# EAGLE library part 645008117322 (library Wire-to-Board (rev18a))
WR-WTB 3.96mm Male Right Locking Header, 8 Pins=>Code : Con_WTB_3.96_PCB_THT_645008117322 <http://katalog.we-online.de/media/thumbs2/eican/thb_Con_WTB_3.96_PCB_THT_6450xx117322_pf2.jpg> Details see: http://katalog.we-online.de/en/em/WTB_3_96_MALE_RIGHT_ANGLED_LOCKING_HEADER_6450XX117322 Created 2014-06-05, Karrer Zheng 2014 (C) Würth Elektronik
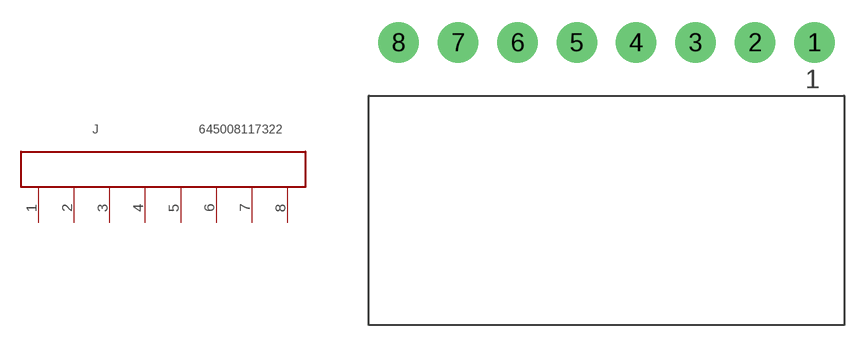
[diagram p3: symbol with the pads of 645008117322; footprint 645008117322]

Designator prefix J

## 645008117322  [645008117322]
1  8  pas
2  7  pas
3  6  pas
4  5  pas
5  4  pas
6  3  pas
7  2  pas
8  1  pas

## Footprint 645008117322 (pad centres in mm)
WR-WTB 3.96mm Male Right Angled Locking Header, 8 Pins
drill 1.8: 1 13.86,0; 2 9.9,0; 3 5.94,0; 4 1.98,0; 5 -1.98,0; 6 -5.94,0; 7 -9.9,0; 8 -13.86,0